# Altium schematic symbol library Connector.SchLib: 53 symbols
Pins are listed as number, name and electrical type; pins without a type are passive.

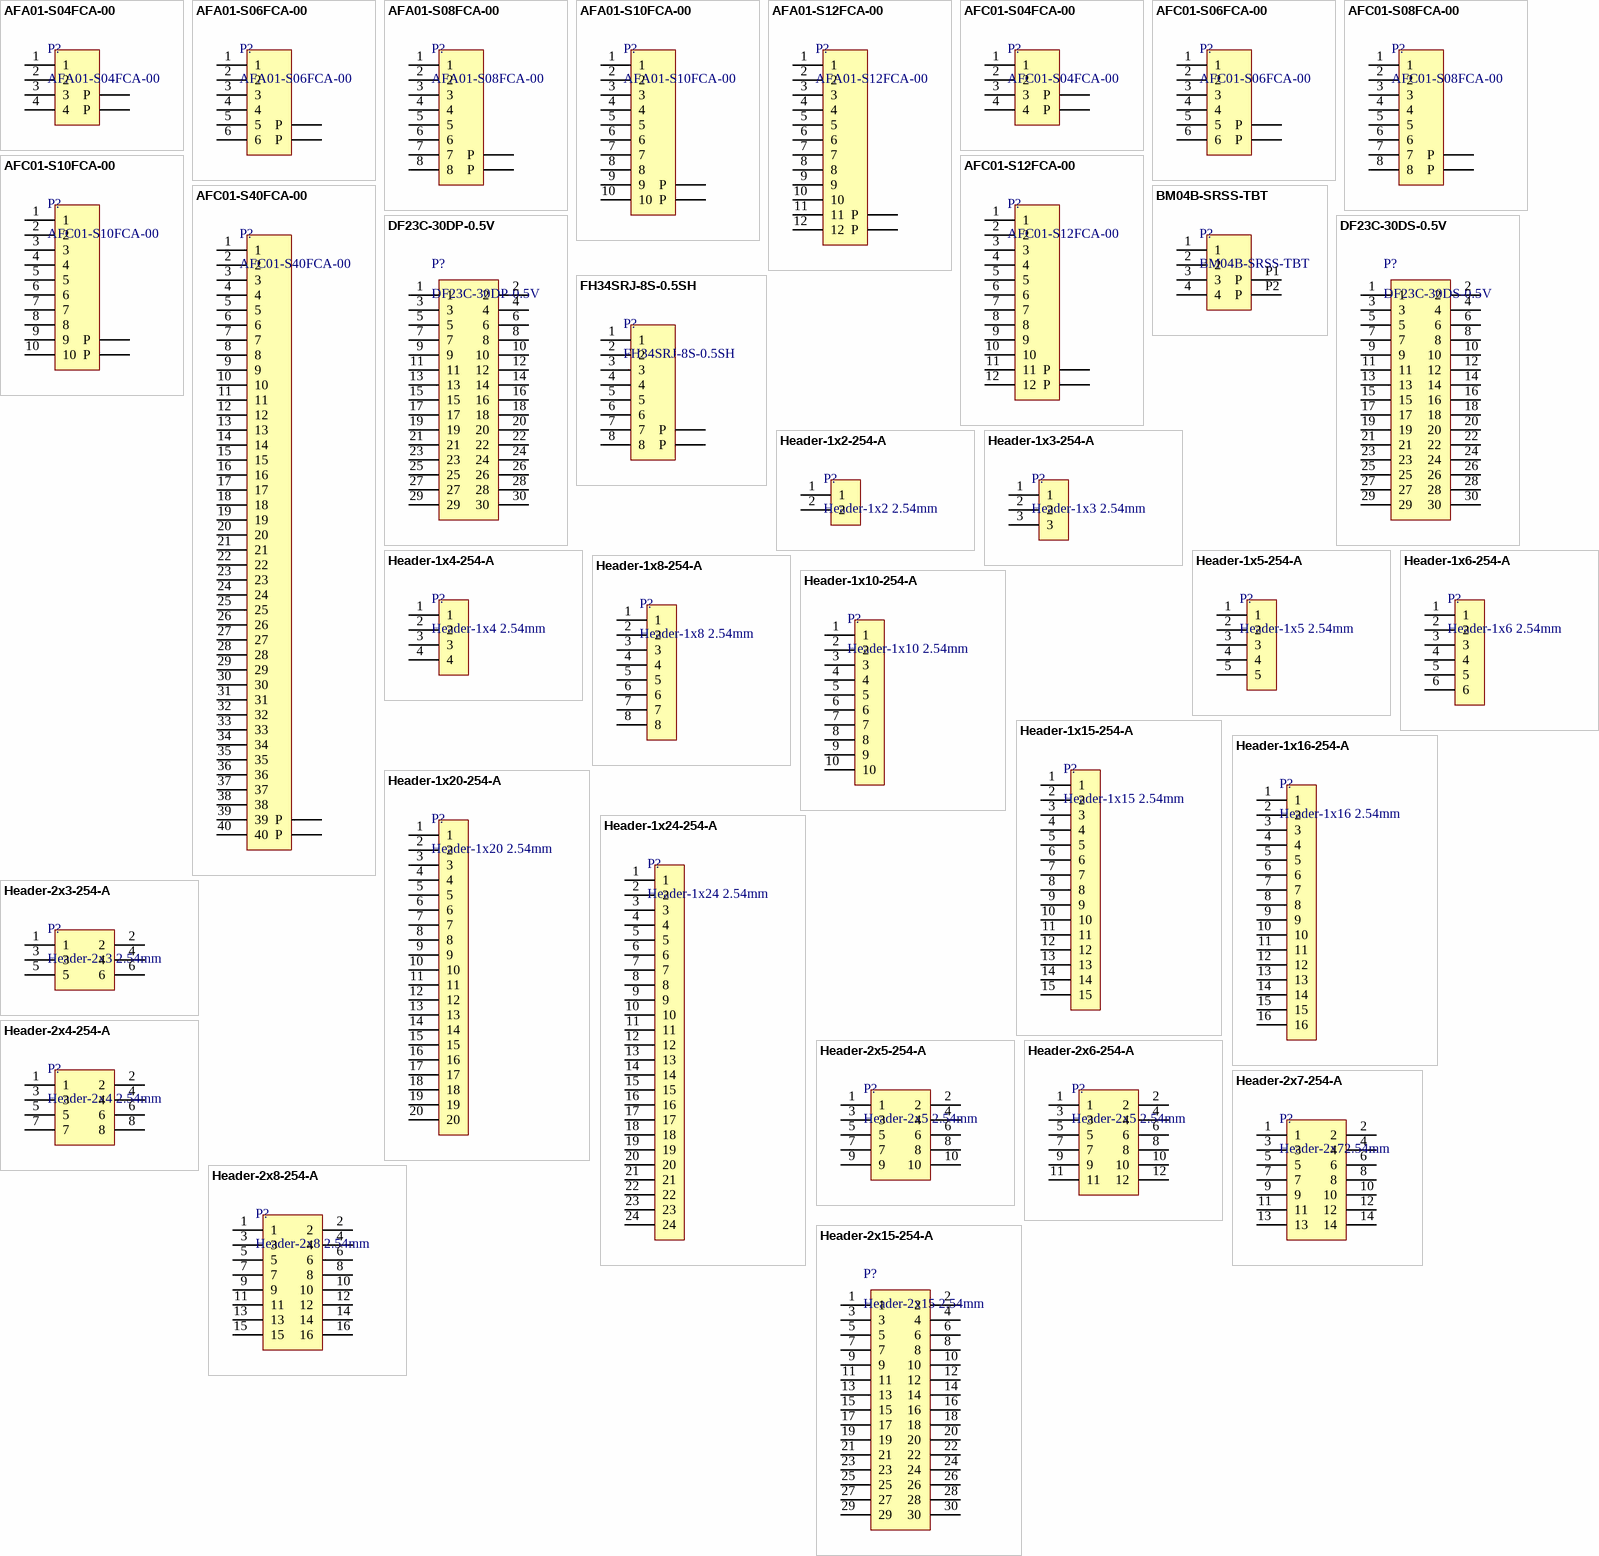
[diagram p0: symbols AFA01-S04FCA-00 to Header-2x15-254-A]

## AFA01-S04FCA-00
designator P?
-20℃~+85℃ Clamshell 4P Bottom Contact Surface Mount，Right Angle 1mm SMD,P=1mm,Surface Mount，Right Angle  FFC/FPC Connectors ROHS; Manufacturer: JUSHUO; Supplier Part Num: C262752; Package: C262752
footprint AFA01-S04FCA-00 (Footprint not found)
pins: 1, 2, 3, 4, P1 P, P2 P

## AFA01-S06FCA-00
designator P?
-20℃~+85℃ Clamshell 6P Bottom Contact Surface Mount，Right Angle 1mm SMD,P=1mm,Surface Mount，Right Angle  FFC/FPC Connectors ROHS; Manufacturer: JUSHUO; Supplier Part Num: C262754; Package: SMD,P=1mm
footprint AFA01-S06FCA-00 (Footprint not found)
pins: 1, 2, 3, 4, 5, 6, P1 P, P2 P

## AFA01-S08FCA-00
designator P?
Clamshell 8P Bottom Contact Surface Mount，Right Angle 1mm SMD,P=1mm,Surface Mount，Right Angle  FFC/FPC Connectors ROHS; Manufacturer: JUSHUO; Supplier Part Num: C262755; Package: SMD,P=1mm
footprint AFA01-S08FCA-00 (Footprint not found)
pins: 1, 2, 3, 4, 5, 6, 7, 8, P1 P, P2 P

## AFA01-S10FCA-00
designator P?
Clamshell 10P Bottom Contact Surface Mount，Right Angle 1mm SMD,P=1mm,Surface Mount，Right Angle  FFC/FPC Connectors ROHS; Manufacturer: JUSHUO; Supplier Part Num: C262756; Package: SMD,P=1mm
footprint AFA01-S10FCA-00 (Footprint not found)
pins: 1, 2, 3, 4, 5, 6, 7, 8, 9, 10, P1 P, P2 P

## AFA01-S12FCA-00
designator P?
Clamshell 12P Bottom Contact Surface Mount，Right Angle 1mm SMD,P=1mm,Surface Mount，Right Angle  FFC/FPC Connectors ROHS; Manufacturer: JUSHUO; Supplier Part Num: C262757; Package: SMD,P=1mm
footprint AFA01-S12FCA-00 (Footprint not found)
pins: 1, 2, 3, 4, 5, 6, 7, 8, 9, 10, 11, 12, P1 P, P2 P

## AFC01-S04FCA-00
designator P?
Clamshell 4P Bottom Contact Surface Mount，Right Angle 0.5mm SMD,P=0.5mm,Surface Mount，Right Angle  FFC/FPC Connectors ROHS; Manufacturer: JUSHUO; Supplier Part Num: C262653; Package: SMD,P=0.5mm
footprint AFC01-S04FCA-00 (SMD,P=0.5mm)
pins: 1, 2, 3, 4, P1 P, P2 P

## AFC01-S06FCA-00
designator P?
Clamshell 6P Bottom Contact Surface Mount，Right Angle 0.5mm SMD,P=0.5mm,Surface Mount，Right Angle  FFC/FPC Connectors ROHS; Manufacturer: JUSHUO; Supplier Part Num: C262655; Package: SMD,P=0.5mm
footprint AFC01-S06FCA-00 (SMD,P=0.5mm)
pins: 1, 2, 3, 4, 5, 6, P1 P, P2 P

## AFC01-S08FCA-00
designator P?
Clamshell 8P Bottom Contact Surface Mount，Right Angle 0.5mm SMD,P=0.5mm,Surface Mount，Right Angle  FFC/FPC Connectors ROHS; Manufacturer: JUSHUO; Supplier Part Num: C262657; Package: SMD,P=0.5mm
footprint AFC01-S08FCA-00 (SMD,P=0.5mm)
pins: 1, 2, 3, 4, 5, 6, 7, 8, P1 P, P2 P

## AFC01-S10FCA-00
designator P?
Clamshell 10P Bottom Contact Surface Mount，Right Angle 0.5mm SMD,P=0.5mm,Surface Mount，Right Angle  FFC/FPC Connectors ROHS; Manufacturer: JUSHUO; Supplier Part Num: C262659; Package: SMD,P=0.5mm
footprint AFC01-S10FCA-00 (SMD,P=0.5mm)
pins: 1, 2, 3, 4, 5, 6, 7, 8, 9, 10, P1 P, P2 P

## AFC01-S12FCA-00
designator P?
Clamshell 12P Bottom Contact Surface Mount，Right Angle 0.5mm SMD,P=0.5mm,Surface Mount，Right Angle  FFC/FPC Connectors ROHS; Manufacturer: JUSHUO; Supplier Part Num: C262661; Package: SMD,P=0.5mm
footprint AFC01-S12FCA-00 (SMD,P=0.5mm)
pins: 1, 2, 3, 4, 5, 6, 7, 8, 9, 10, 11, 12, P1 P, P2 P

## AFC01-S40FCA-00
designator P?
Clamshell 40P Bottom Contact Surface Mount，Right Angle 0.5mm SMD,P=0.5mm,Surface Mount，Right Angle  FFC/FPC Connectors ROHS; Manufacturer: JUSHUO; Supplier Part Num: C262674; Package: SMD,P=0.5mm
footprint AFC01-S40FCA-00 (Footprint not found)
pins: 1, 2, 3, 4, 5, 6, 7, 8, 9, 10, 11, 12, 13, 14, 15, 16, 17, 18, 19, 20, 21, 22, 23, 24, 25, 26, 27, 28, 29, 30, 31, 32, 33, 34, 35, 36, 37, 38, 39, 40, P1 P, P2 P

## BM04B-SRSS-TBT
designator P?
CONN HEADER SMD 4POS 1MM
footprint FP-BM04B-SRSS-TBT_LF_SN-MFG
pins: 1, 2, 3, 4, P1 P, P2 P

## DF23C-30DP-0.5V
designator P?
footprint DF23C-30DP-0.5V
pins: 1, 2, 3, 4, 5, 6, 7, 8, 9, 10, 11, 12, 13, 14, 15, 16, 17, 18, 19, 20, 21, 22, 23, 24, 25, 26, 27, 28, 29, 30

## DF23C-30DS-0.5V
designator P?
footprint DF23C-30DS-0.5V
pins: 1, 2, 3, 4, 5, 6, 7, 8, 9, 10, 11, 12, 13, 14, 15, 16, 17, 18, 19, 20, 21, 22, 23, 24, 25, 26, 27, 28, 29, 30

## FH34SRJ-8S-0.5SH
designator P?
8 Position FFC, FPC Connector Contacts, Top and Bottom 0.020" (0.50mm) Surface Mount, Right Angle; Supplier Part Num: C709364
footprint FH34SRJ-8S-0.5SH (SMD,P=0.5mm)
pins: 1, 2, 3, 4, 5, 6, 7, 8, P1 P, P2 P

## Header-1x2-254-A
designator P?, comment Header-1x2 2.54mm
footprint Header-2_54mm-1x2-A
pins: 1, 2

## Header-1x3-254-A
designator P?, comment Header-1x3 2.54mm
footprint Header-2_54mm-1x3-A
pins: 1, 2, 3

## Header-1x4-254-A
designator P?, comment Header-1x4 2.54mm
footprint Header-2_54mm-1x4-A
pins: 1, 2, 3, 4

## Header-1x5-254-A
designator P?, comment Header-1x5 2.54mm
footprint Header-2_54mm-1x5-A
pins: 1, 2, 3, 4, 5

## Header-1x6-254-A
designator P?, comment Header-1x6 2.54mm
footprint Header-2_54mm-1x6-A
pins: 1, 2, 3, 4, 5, 6

## Header-1x8-254-A
designator P?, comment Header-1x8 2.54mm
footprint Header-2_54mm-1x8-A
pins: 1, 2, 3, 4, 5, 6, 7, 8

## Header-1x10-254-A
designator P?, comment Header-1x10 2.54mm
footprint Header-2_54mm-1x10-A
pins: 1, 2, 3, 4, 5, 6, 7, 8, 9, 10

## Header-1x15-254-A
designator P?, comment Header-1x15 2.54mm
footprint Header-2_54mm-1x15-A
pins: 1, 2, 3, 4, 5, 6, 7, 8, 9, 10, 11, 12, 13, 14, 15

## Header-1x16-254-A
designator P?, comment Header-1x16 2.54mm
footprint Header-2_54mm-1x16-A
pins: 1, 2, 3, 4, 5, 6, 7, 8, 9, 10, 11, 12, 13, 14, 15, 16

## Header-1x20-254-A
designator P?, comment Header-1x20 2.54mm
footprint Header-2_54mm-1x20-A
pins: 1, 2, 3, 4, 5, 6, 7, 8, 9, 10, 11, 12, 13, 14, 15, 16, 17, 18, 19, 20

## Header-1x24-254-A
designator P?, comment Header-1x24 2.54mm
footprint Header-2_54mm-1x24-A
pins: 1, 2, 3, 4, 5, 6, 7, 8, 9, 10, 11, 12, 13, 14, 15, 16, 17, 18, 19, 20, 21, 22, 23, 24

## Header-2x3-254-A
designator P?, comment Header-2x3 2.54mm
footprint Header-2_54mm-2x3-A
pins: 1, 2, 3, 4, 5, 6

## Header-2x4-254-A
designator P?, comment Header-2x4 2.54mm
footprint Header-2_54mm-2x4-A
pins: 1, 2, 3, 4, 5, 6, 7, 8

## Header-2x5-254-A
designator P?, comment Header-2x5 2.54mm
footprint Header-2_54mm-2x5-A
pins: 1, 2, 3, 4, 5, 6, 7, 8, 9, 10

## Header-2x6-254-A
designator P?, comment Header-2x5 2.54mm
footprint Header-2_54mm-2x6-A
pins: 1, 2, 3, 4, 5, 6, 7, 8, 9, 10, 11, 12

## Header-2x7-254-A
designator P?, comment Header-2x72.54mm
pins: 1, 2, 3, 4, 5, 6, 7, 8, 9, 10, 11, 12, 13, 14

## Header-2x8-254-A
designator P?, comment Header-2x8 2.54mm
footprint Header-2_54mm-2x8-A
pins: 1, 2, 3, 4, 5, 6, 7, 8, 9, 10, 11, 12, 13, 14, 15, 16

## Header-2x15-254-A
designator P?, comment Header-2x15 2.54mm
pins: 1, 2, 3, 4, 5, 6, 7, 8, 9, 10, 11, 12, 13, 14, 15, 16, 17, 18, 19, 20, 21, 22, 23, 24, 25, 26, 27, 28, 29, 30

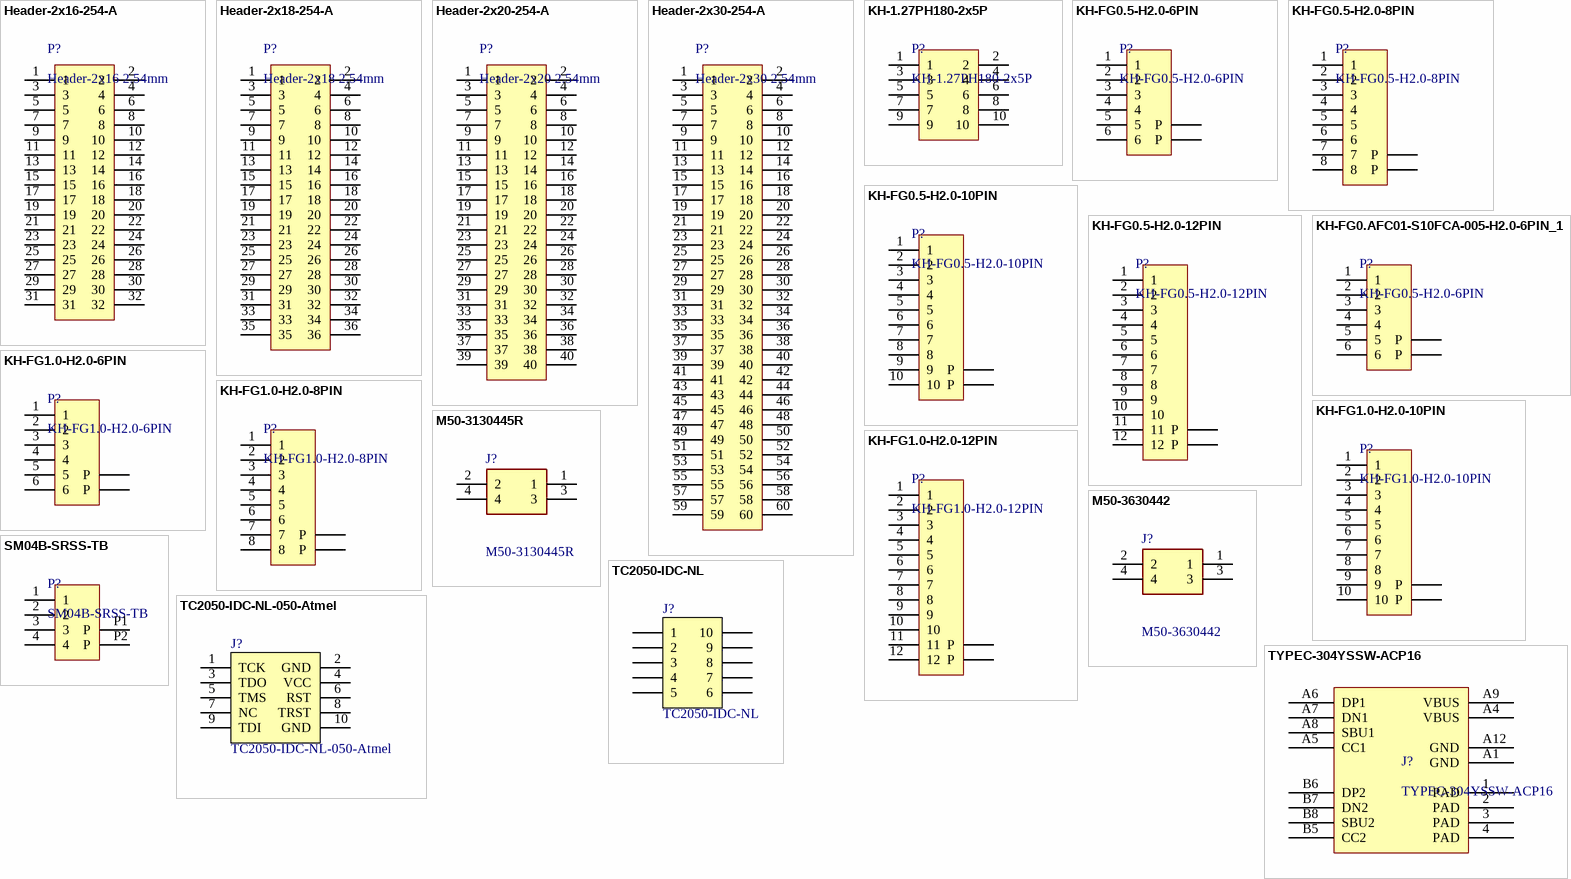
[diagram p1: symbols Header-2x16-254-A to TYPEC-304YSSW-ACP16]

## Header-2x16-254-A
designator P?, comment Header-2x16 2.54mm
footprint Header-2_54mm-2x16-A
pins: 1, 2, 3, 4, 5, 6, 7, 8, 9, 10, 11, 12, 13, 14, 15, 16, 17, 18, 19, 20, 21, 22, 23, 24, 25, 26, 27, 28, 29, 30, 31, 32

## Header-2x18-254-A
designator P?, comment Header-2x18 2.54mm
footprint Header-2_54mm-2x18-A
pins: 1, 2, 3, 4, 5, 6, 7, 8, 9, 10, 11, 12, 13, 14, 15, 16, 17, 18, 19, 20, 21, 22, 23, 24, 25, 26, 27, 28, 29, 30, 31, 32, 33, 34, 35, 36

## Header-2x20-254-A
designator P?, comment Header-2x20 2.54mm
footprint Header-2_54mm-2x20-A
pins: 1, 2, 3, 4, 5, 6, 7, 8, 9, 10, 11, 12, 13, 14, 15, 16, 17, 18, 19, 20, 21, 22, 23, 24, 25, 26, 27, 28, 29, 30, 31, 32, 33, 34, 35, 36, 37, 38, 39, 40

## Header-2x30-254-A
designator P?, comment Header-2x30 2.54mm
pins: 1, 2, 3, 4, 5, 6, 7, 8, 9, 10, 11, 12, 13, 14, 15, 16, 17, 18, 19, 20, 21, 22, 23, 24, 25, 26, 27, 28, 29, 30, 31, 32, 33, 34, 35, 36, 37, 38, 39, 40, 41, 42, 43, 44, 45, 46, 47, 48, 49, 50, 51, 52, 53, 54, 55, 56, 57, 58, 59, 60

## KH-1.27PH180-2x5P
designator P?
2x5 Pin header, 1.27mm
footprint KH-1.27PH180-2X5P
pins: 1, 2, 3, 4, 5, 6, 7, 8, 9, 10

## KH-FG0.5-H2.0-6PIN
designator P?
Clamshell -25℃~+85℃ 6P Bottom Contact Surface Mount 0.5mm SMD,P=0.5mm  FFC/FPC Connectors ROHS; Supplier Part Num: C709364
footprint KH-FG0.5-H2.0-6PIN (SMD,P=0.5mm)
pins: 1, 2, 3, 4, 5, 6, P1 P, P2 P

## KH-FG0.5-H2.0-8PIN
designator P?
Clamshell -25℃~+85℃ 8P Bottom Contact Surface Mount 0.5mm SMD,P=0.5mm  FFC/FPC Connectors ROHS; Supplier Part Num: C709364
footprint KH-FG0.5-H2.0-8PIN (SMD,P=0.5mm)
pins: 1, 2, 3, 4, 5, 6, 7, 8, P1 P, P2 P

## KH-FG0.5-H2.0-10PIN
designator P?
Clamshell -25℃~+85℃ 10P Bottom Contact Surface Mount 0.5mm SMD,P=0.5mm  FFC/FPC Connectors ROHS; Supplier Part Num: C709364
footprint KH-FG0.5-H2.0-10PIN (SMD,P=0.5mm)
pins: 1, 2, 3, 4, 5, 6, 7, 8, 9, 10, P1 P, P2 P

## KH-FG0.5-H2.0-12PIN
designator P?
Clamshell -25℃~+85℃ 12P Bottom Contact Surface Mount 0.5mm SMD,P=0.5mm  FFC/FPC Connectors ROHS; Supplier Part Num: C709364
footprint KH-FG0.5-H2.0-12PIN (SMD,P=0.5mm)
pins: 1, 2, 3, 4, 5, 6, 7, 8, 9, 10, 11, 12, P1 P, P2 P

## KH-FG0.AFC01-S10FCA-005-H2.0-6PIN_1
designator P?, comment KH-FG0.5-H2.0-6PIN
Clamshell -25℃~+85℃ 6P Bottom Contact Surface Mount 0.5mm SMD,P=0.5mm  FFC/FPC Connectors ROHS; Supplier Part Num: C709364
footprint KH-FG0.5-H2.0-6PIN (SMD,P=0.5mm)
pins: 1, 2, 3, 4, 5, 6, P1 P, P2 P

## KH-FG1.0-H2.0-6PIN
designator P?
Clamshell -25℃~+85℃ 6P Bottom Contact Surface Mount 1mm SMD,P=1mm FFC/FPC Connectors ROHS; Supplier Part Num: C709364
footprint KH-FG1.0-H2.0-6PIN
pins: 1, 2, 3, 4, 5, 6, P1 P, P2 P

## KH-FG1.0-H2.0-8PIN
designator P?
Clamshell -25℃~+85℃ 8P Bottom Contact Surface Mount 1mm SMD,P=1mm FFC/FPC Connectors ROHS; Supplier Part Num: C709364
footprint KH-FG1.0-H2.0-8PIN
pins: 1, 2, 3, 4, 5, 6, 7, 8, P1 P, P2 P

## KH-FG1.0-H2.0-10PIN
designator P?
Clamshell -25℃~+85℃ 10P Bottom Contact Surface Mount 1mm SMD,P=1mm FFC/FPC Connectors ROHS; Supplier Part Num: C709364
footprint KH-FG1.0-H2.0-10PIN
pins: 1, 2, 3, 4, 5, 6, 7, 8, 9, 10, P1 P, P2 P

## KH-FG1.0-H2.0-12PIN
designator P?
Clamshell -25℃~+85℃ 12P Bottom Contact Surface Mount 1mm SMD,P=1mm FFC/FPC Connectors ROHS; Supplier Part Num: C709364
footprint KH-FG1.0-H2.0-12PIN
pins: 1, 2, 3, 4, 5, 6, 7, 8, 9, 10, 11, 12, P1 P, P2 P

## M50-3130445R
designator J?
1.27mm (0.05") Pitch SIL Vertical SMT Socket Assembly, 2.1mm high, gold, 4 contacts, with pick & place cap (Tape & Reel packing); Manufacturer_Name: Harwin; Geometry.Height: 2.3mm; Mouser Part Number: 855-M50-3130445R; Mouser Price/Stock: https://www.mouser.co.uk/ProductDetail/Harwin/M50-3130445R?qs=%252BdQmOuGyFcFHQSEcfoEjcw%3D%3D; Manufacturer_Part_Number: M50-3130445R; Datasheet Link: https://cdn.harwin.com/pdfs/M50-313.pdf
footprint M503130445R
pins: 1, 2, 3, 4

## M50-3630442
designator J?
1.27mm (0.05") Pitch SIL Vertical SMT Pin Header, selective gold + tin, 4 contacts; Manufacturer_Name: Harwin; Geometry.Height: 4mm; Mouser Part Number: 855-M50-3630442; Mouser Price/Stock: https://www.mouser.co.uk/ProductDetail/Harwin/M50-3630442?qs=%252BdQmOuGyFcE6k2Z86bbY9Q%3D%3D; Manufacturer_Part_Number: M50-3630442; Datasheet Link: https://cdn.harwin.com/pdfs/M50-363.pdf
footprint M503630442
pins: 1, 2, 3, 4

## SM04B-SRSS-TB
designator P?
1x4P 1 SR/SZ Tin 1mm 4 -25℃~+85℃ 1A Copper Alloy Surface Mount -  Wire To Board / Wire To Wire Connector ROHS
footprint SM04B-SRSS-TBT_LF_SN
pins: 1, 2, 3, 4, P1 P, P2 P

## TC2050-IDC-NL
designator J?  (no BOM)
CBL PLUG-OF-NAILS 10-PIN; Part Number: TC2050-IDC-NLFP; Manufacturer: Tag-Connect LLC; Artikkelnr Noca: N.A.; Pad Count: 10; Manufacturer Part Number: TC2050-IDC-NLFP; LatestRevisionDate: 2012-11-21; Publisher: Nordic Semiconductor; Published: 2012-11-21; Value: TC2050-IDC; Pin Count: 10; Footprint Doc: TC2050-IDC-NLFP; Part number IPS: N.A.; ComponentLink1URL: N.A.; ComponentLink1Description: Datasheet; ComponentLink2URL: N.A.; ComponentLink2Description: Supplier link; HelpURL: http://www.tag-connect.com/Materials/TC2050-IDC%20Datasheet.pdf; Supplier 1: Digi-Key; Supplier Part Number 1: TC2050-IDC-NL-ND; Supplier 2: N.A.; Supplier Part Number 2: N.A.; Component Class: Connectors; Note: N.A.; PartId: 100500463; Author: rsk; Part number Norautron: N.A.
footprint TC2050-IDC-NLFP
pins: 1, 2, 3, 4, 5, 6, 7, 8, 9, 10

## TC2050-IDC-NL-050-Atmel
designator J?  (no BOM)
CBL PLUG-OF-NAILS 10-PIN; Part Number: TC2050-IDC-NLFP; Manufacturer: Tag-Connect LLC; Artikkelnr Noca: N.A.; Pad Count: 10; Manufacturer Part Number: TC2050-IDC-NLFP; LatestRevisionDate: 2012-11-21; Publisher: Nordic Semiconductor; Published: 2012-11-21; Value: TC2050-IDC; Pin Count: 10; Footprint Doc: TC2050-IDC-NLFP; Part number IPS: N.A.; ComponentLink1URL: N.A.; ComponentLink1Description: Datasheet; ComponentLink2URL: N.A.; ComponentLink2Description: Supplier link; HelpURL: http://www.tag-connect.com/Materials/TC2050-IDC%20Datasheet.pdf; Supplier 1: Digi-Key; Supplier Part Number 1: TC2050-IDC-NL-ND; Supplier 2: N.A.; Supplier Part Number 2: N.A.; Component Class: Connectors; Note: N.A.; PartId: 100500463; Author: rsk; Part number Norautron: N.A.
footprint TC2050-IDC-NLFP
pins: 1 TCK, 2 GND, 3 TDO, 4 VCC, 5 TMS, 6 RST, 7 NC, 8 TRST, 9 TDI, 10 GND

## TYPEC-304YSSW-ACP16
designator J?
5A16PIN TYPEC
footprint TYPEC-304YSSW-ACP16 (USB Type-C)
pins: 1 PAD, 2 PAD, 3 PAD, 4 PAD, A1 GND, A4 VBUS, A5 CC1, A6 DP1, A7 DN1, A8 SBU1, A9 VBUS, A12 GND, B5 CC2, B6 DP2, B7 DN2, B8 SBU2